# EAGLE library part MINI-USB2.0-RECEPT-5POS-4-LEGS-(ST-USB-013A) (library OPL_Connector)
Seeed SKU 320010014 - DIP Mini USB-B MPN: ST-USB-013A Important Notes: This part requires milling slots. Please make sure layer 46 Milling is included in the profile or outline layer when exporting Gerber files. Alternatively, you can use the built-in Seeed Fusion CAM file. Find it under Third-Party CAM files. Seeed Fusion PCBA OPL <https://www.seeedstudio.com/opl.html> Order PCB/PCBA Now <https://www.seeedstudio.com/fusion_pcb.html> www.seeedstudio.com
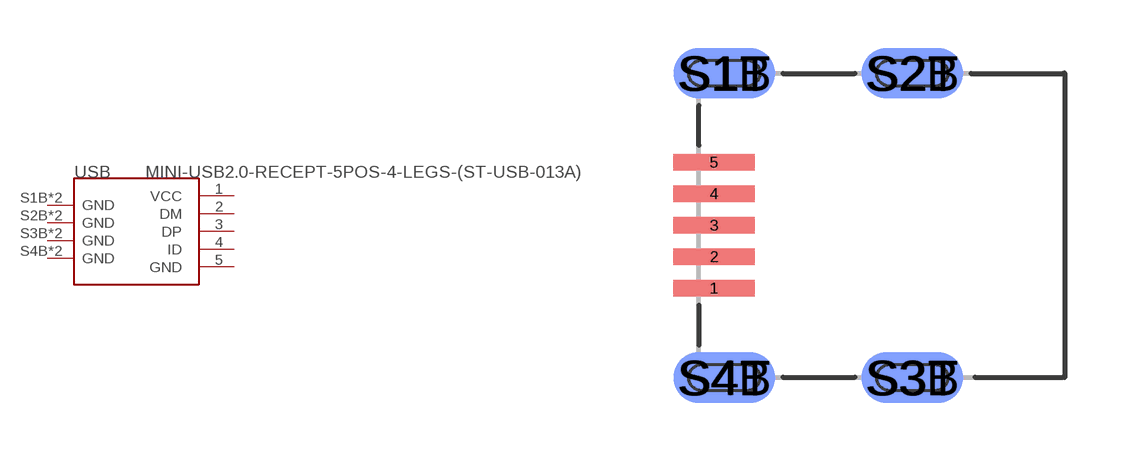
[diagram p25: symbol with the pads of MINIUSB5+4P-0.8-90D; footprint MINIUSB5+4P-0.8-90D]

Designator prefix USB

## MINI-USB2.0-RECEPT-5POS-4-LEGS-(ST-USB-013A) (MPN: ST-USB-013A; VALUE: ST-USB-013A)  [MINIUSB5+4P-0.8-90D]
1  VCC
2  DM
3  DP
4  ID
5  GND
S1B  GND
S1T  GND
S2B  GND
S2T  GND
S3B  GND
S3T  GND
S4B  GND
S4T  GND

## Footprint MINIUSB5+4P-0.8-90D (pad centres in mm)
Seeed SKU 320010014 - DIP Mini USB-B MPN: ST-USB-013A Important Notes: This part requires milling slots. Please make sure layer 46 Milling is included in the profile or outline layer when exporting Gerber files. Alternatively, you can use the built-in Seeed Fusion CAM file. Find it under Third-Party CAM files. Seeed Fusion PCBA OPL <https://www.seeedstudio.com/opl.html> Order PCB/PCBA Now <https://www.seeedstudio.com/fusion_pcb.html> www.seeedstudio.com
smd 2.032 x 0.406: 1 0.381,-1.575; 2 0.381,-0.787; 3 0.381,0; 4 0.381,0.787; 5 0.381,1.575
smd 2.54 x 1.27 bottom: S1B 0.635,3.81; S2B 5.334,3.81; S3B 5.334,-3.81; S4B 0.635,-3.81
smd 2.54 x 1.27: S1T 0.635,3.81; S2T 5.334,3.81; S3T 5.334,-3.81; S4T 0.635,-3.81